# EAGLE library part MC56001 (library F030NG)
DSP / MC56001
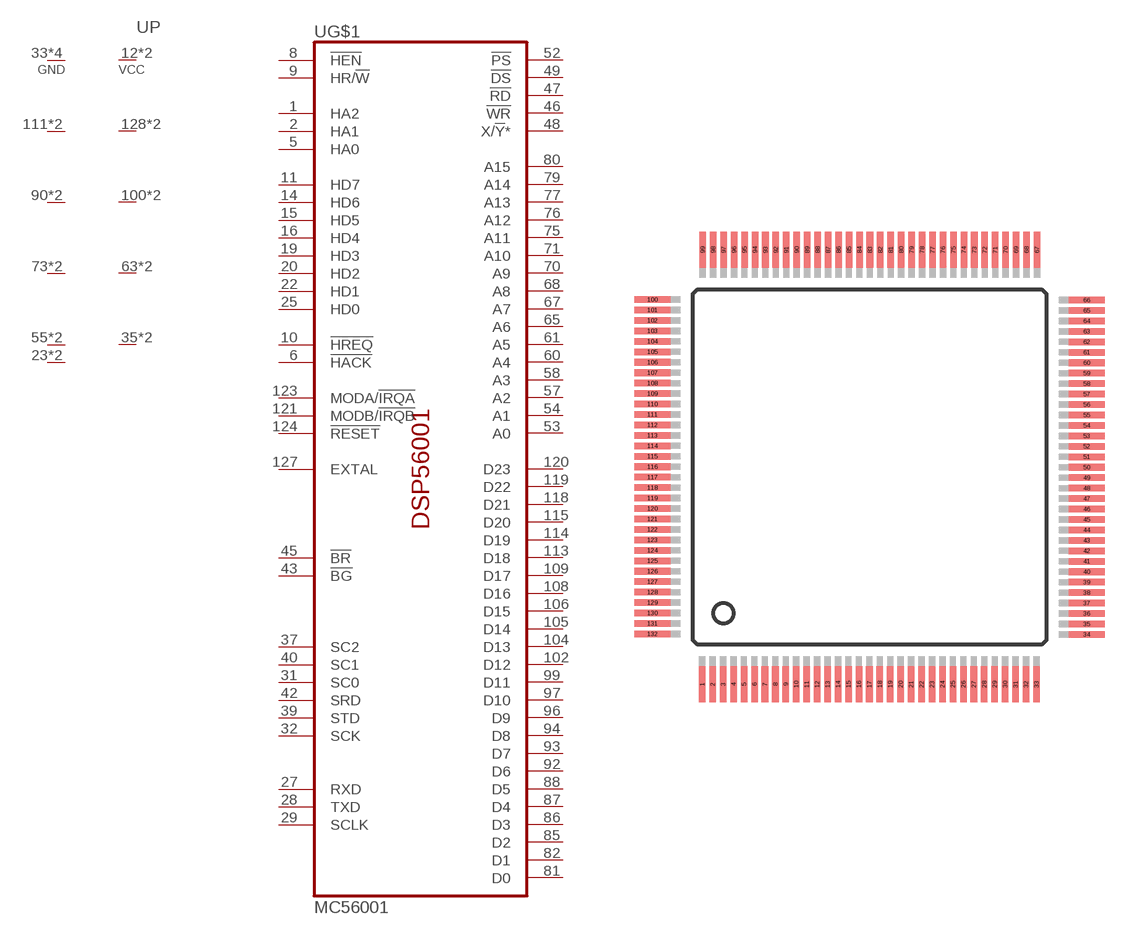
[diagram p33: symbol with the pads of CQFP132; footprint CQFP132]

Designator prefix U; gates G$1=MC56001 P=5VCC_6GND

## MC56001-CQFP132  [CQFP132]
1  G$1:HA2  in
2  G$1:HA1  in
5  G$1:HA0  in
6  G$1:!HACK  in
8  G$1:!HEN  in
9  G$1:HR/!W  in
10  G$1:!HREQ  out
11  G$1:HD7
12  P:VCC  pwr
13  P:VCC  pwr
14  G$1:HD6
15  G$1:HD5
16  G$1:HD4
19  G$1:HD3
20  G$1:HD2
22  G$1:HD1
23  P:GND  pwr
24  P:GND  pwr
25  G$1:HD0
27  G$1:RXD  in
28  G$1:TXD  out
29  G$1:SCLK
31  G$1:SC0
32  G$1:SCK
33  P:GND  pwr
34  P:GND  pwr
35  P:VCC  pwr
36  P:VCC  pwr
37  G$1:SC2
39  G$1:STD  out
40  G$1:SC1
42  G$1:SRD  in
43  G$1:!BG  in
45  G$1:!BR  out
46  G$1:!WR  out
47  G$1:!RD  out
48  G$1:X/!Y!*  out
49  G$1:!DS  out
52  G$1:!PS  out
53  G$1:A0  out
54  G$1:A1  out
55  P:GND  pwr
56  P:GND  pwr
57  G$1:A2  out
58  G$1:A3  out
60  G$1:A4  out
61  G$1:A5  out
63  P:VCC  pwr
64  P:VCC  pwr
65  G$1:A6  out
67  G$1:A7  out
68  G$1:A8  out
70  G$1:A9  out
71  G$1:A10  out
73  P:GND  pwr
74  P:GND  pwr
75  G$1:A11  out
76  G$1:A12  out
77  G$1:A13  out
79  G$1:A14  out
80  G$1:A15  out
81  G$1:D0
82  G$1:D1
85  G$1:D2
86  G$1:D3
87  G$1:D4
88  G$1:D5
90  P:GND  pwr
91  P:GND  pwr
92  G$1:D6
93  G$1:D7
94  G$1:D8
96  G$1:D9
97  G$1:D10
99  G$1:D11
100  P:VCC  pwr
101  P:VCC  pwr
102  G$1:D12
104  G$1:D13
105  G$1:D14
106  G$1:D15
108  G$1:D16
109  G$1:D17
111  P:GND  pwr
112  P:GND  pwr
113  G$1:D18
114  G$1:D19
115  G$1:D20
118  G$1:D21
119  G$1:D22
120  G$1:D23
121  G$1:MODB/!IRQB  in
123  G$1:MODA/!IRQA  in
124  G$1:!RESET  in
127  G$1:EXTAL  in
128  P:VCC  pwr
129  P:VCC  pwr
130  P:GND  pwr
131  P:GND  pwr

## Footprint CQFP132 (pad centres in mm)
CERAMIC QUAD FLAT PACK
smd 0.4 x 2.2: 1 -10.175,-13.2; 2 -9.54,-13.2; 3 -8.905,-13.2; 4 -8.27,-13.2; 5 -7.635,-13.2; 6 -7,-13.2; 7 -6.365,-13.2; 8 -5.73,-13.2; 9 -5.095,-13.2; 10 -4.46,-13.2; 11 -3.825,-13.2; 12 -3.19,-13.2; 13 -2.555,-13.2; 14 -1.92,-13.2; 15 -1.285,-13.2; 16 -0.65,-13.2; 17 -0.015,-13.2; 18 0.62,-13.2; 19 1.255,-13.2; 20 1.89,-13.2; 21 2.525,-13.2; 22 3.16,-13.2; 23 3.795,-13.2; 24 4.43,-13.2; 25 5.065,-13.2; 26 5.7,-13.2; 27 6.335,-13.2; 28 6.97,-13.2; 29 7.605,-13.2; 30 8.24,-13.2; 31 8.875,-13.2; 32 9.51,-13.2; 33 10.145,-13.2; 67 10.175,13.2; 68 9.54,13.2; 69 8.905,13.2; 70 8.27,13.2; 71 7.635,13.2; 72 7,13.2; 73 6.365,13.2; 74 5.73,13.2; 75 5.095,13.2; 76 4.46,13.2; 77 3.825,13.2; 78 3.19,13.2; 79 2.555,13.2; 80 1.92,13.2; 81 1.285,13.2; 82 0.65,13.2; 83 0.015,13.2; 84 -0.62,13.2; 85 -1.255,13.2; 86 -1.89,13.2; 87 -2.525,13.2; 88 -3.16,13.2; 89 -3.795,13.2; 90 -4.43,13.2; 91 -5.065,13.2; 92 -5.7,13.2; 93 -6.335,13.2; 94 -6.97,13.2; 95 -7.605,13.2; 96 -8.24,13.2; 97 -8.875,13.2; 98 -9.51,13.2; 99 -10.145,13.2
smd 2.2 x 0.4: 34 13.2,-10.175; 35 13.2,-9.54; 36 13.2,-8.905; 37 13.2,-8.27; 38 13.2,-7.635; 39 13.2,-7; 40 13.2,-6.365; 41 13.2,-5.73; 42 13.2,-5.095; 43 13.2,-4.46; 44 13.2,-3.825; 45 13.2,-3.19; 46 13.2,-2.555; 47 13.2,-1.92; 48 13.2,-1.285; 49 13.2,-0.65; 50 13.2,-0.015; 51 13.2,0.62; 52 13.2,1.255; 53 13.2,1.89; 54 13.2,2.525; 55 13.2,3.16; 56 13.2,3.795; 57 13.2,4.43; 58 13.2,5.065; 59 13.2,5.7; 60 13.2,6.335; 61 13.2,6.97; 62 13.2,7.605; 63 13.2,8.24; 64 13.2,8.875; 65 13.2,9.51; 66 13.2,10.145; 100 -13.2,10.175; 101 -13.2,9.54; 102 -13.2,8.905; 103 -13.2,8.27; 104 -13.2,7.635; 105 -13.2,7; 106 -13.2,6.365; 107 -13.2,5.73; 108 -13.2,5.095; 109 -13.2,4.46; 110 -13.2,3.825; 111 -13.2,3.19; 112 -13.2,2.555; 113 -13.2,1.92; 114 -13.2,1.285; 115 -13.2,0.65; 116 -13.2,0.015; 117 -13.2,-0.62; 118 -13.2,-1.255; 119 -13.2,-1.89; 120 -13.2,-2.525; 121 -13.2,-3.16; 122 -13.2,-3.795; 123 -13.2,-4.43; 124 -13.2,-5.065; 125 -13.2,-5.7; 126 -13.2,-6.335; 127 -13.2,-6.97; 128 -13.2,-7.605; 129 -13.2,-8.24; 130 -13.2,-8.875; 131 -13.2,-9.51; 132 -13.2,-10.145